# Altium footprint library HANRUN_HR911130A.PcbLib: 1 footprints
Each footprint in its own frame and in the unit in brackets; x right, y up, seen from the top. Pads: shape width x height; smd on the part's side, far side on the other; paste and mask are expansions set on the pad; w line width, h text height; cw(c..) or ccw(c..) is an arc to the next point about the centre after c.
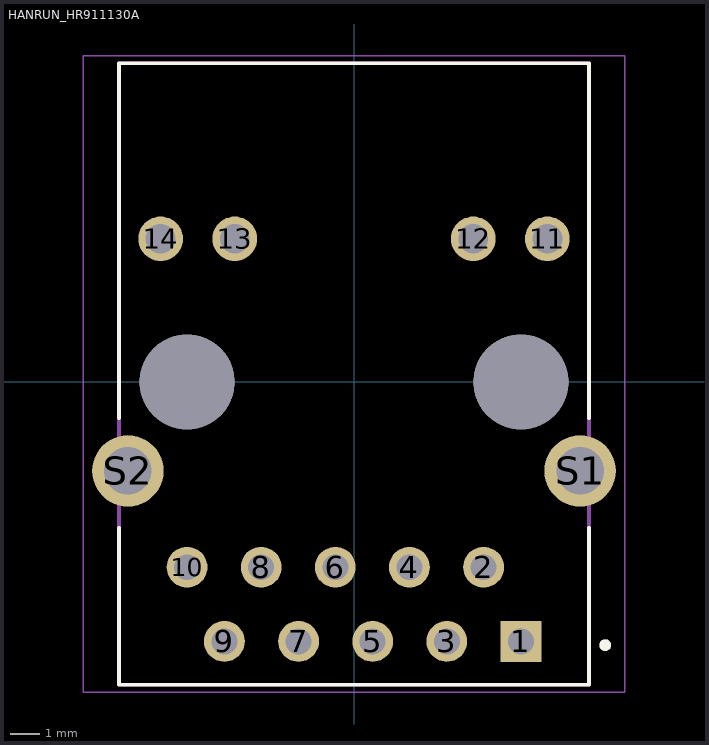
[diagram p0: the footprint, top view; thin cyan lines are the x and y axes]

## HANRUN_HR911130A [mm]
height 13.75
pads (18):
  rect 1.398x1.398 / inner round 1.398 / far side rect 1.398x1.398 hole 0.89: 1(5.72,-8.89)
  round 1.398 hole 0.89: 2(4.44,-6.35) 3(3.18,-8.89) 4(1.9,-6.35) 5(0.64,-8.89) 6(-0.64,-6.35) 7(-1.9,-8.89) 8(-3.18,-6.35) 9(-4.44,-8.89) 10(-5.72,-6.35)
  round 1.53 hole 1.02: 11(6.625,4.9) 12(4.085,4.9) 13(-4.085,4.9) 14(-6.625,4.9)
  round 2.445 hole 1.63: S1(7.745,-3.05) S2(-7.745,-3.05)
  round 3.25 hole 3.25 unplated: ""(-5.715,0) ""(5.715,0)
Top Overlay:
  circle w0.2: c8.607,-9.017 r0.1
  lines w0.127: -8.05,-5 -8.05,-10.38 8.05,-10.38 8.05,-5 ; -8.05,-1.25 -8.05,10.92 8.05,10.92 8.05,-1.25
Mechanical 13:
  circle w0.2: c8.607,-9.017 r0.1
  lines w0.127: -8.05,-10.38 8.05,-10.38 8.05,10.92 -8.05,10.92 -8.05,-10.38
Mechanical 15:
  lines w0.05: -9.277,-10.63 -9.277,11.17 9.277,11.17 9.277,-10.63 -9.277,-10.63
3D body "step_temp.STEP": height 13.5, standoff -3.05, extent -8.02,-10.9 8.02,10.4